# Altium integrated library res1.IntLib: 1 symbol
Pins are listed as number, name and electrical type; pins without a type are passive.

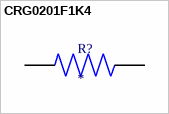
[diagram p0: symbol CRG0201F1K4]

## CRG0201F1K4
designator R?
Res Thick Film 0201 1.4K Ohm 1% 1/20W Â±200ppm/Â°C Molded SMD T/R; MP: CRG0201F1K4; Package: None; Price: None; Value: *; Availability: Unavailable
footprint RESC0603X26N
pins: 1, 2